# Altium schematic symbol library 传感器.SchLib: 2 symbols
Pins are listed as number, name and electrical type; pins without a type are passive.

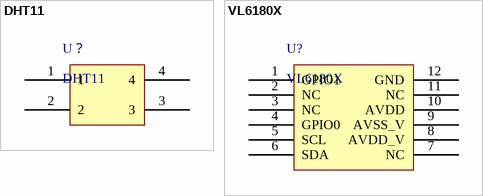
[diagram p0: symbols DHT11 to VL6180X]

## DHT11
designator U？
footprint DHT11
pins: 1, 2, 3, 4

## VL6180X
designator U?
pins: 1 GPIO1, 2 NC, 3 NC, 4 GPIO0, 5 SCL, 6 SDA, 7 NC, 8 AVDD_V, 9 AVSS_V, 10 AVDD, 11 NC, 12 GND